# Altium schematic symbol library aiskylab-06IC-02Memory.SchLib: 21 symbols (part 1 of 4)
Pins are listed as number, name and electrical type; pins without a type are passive.

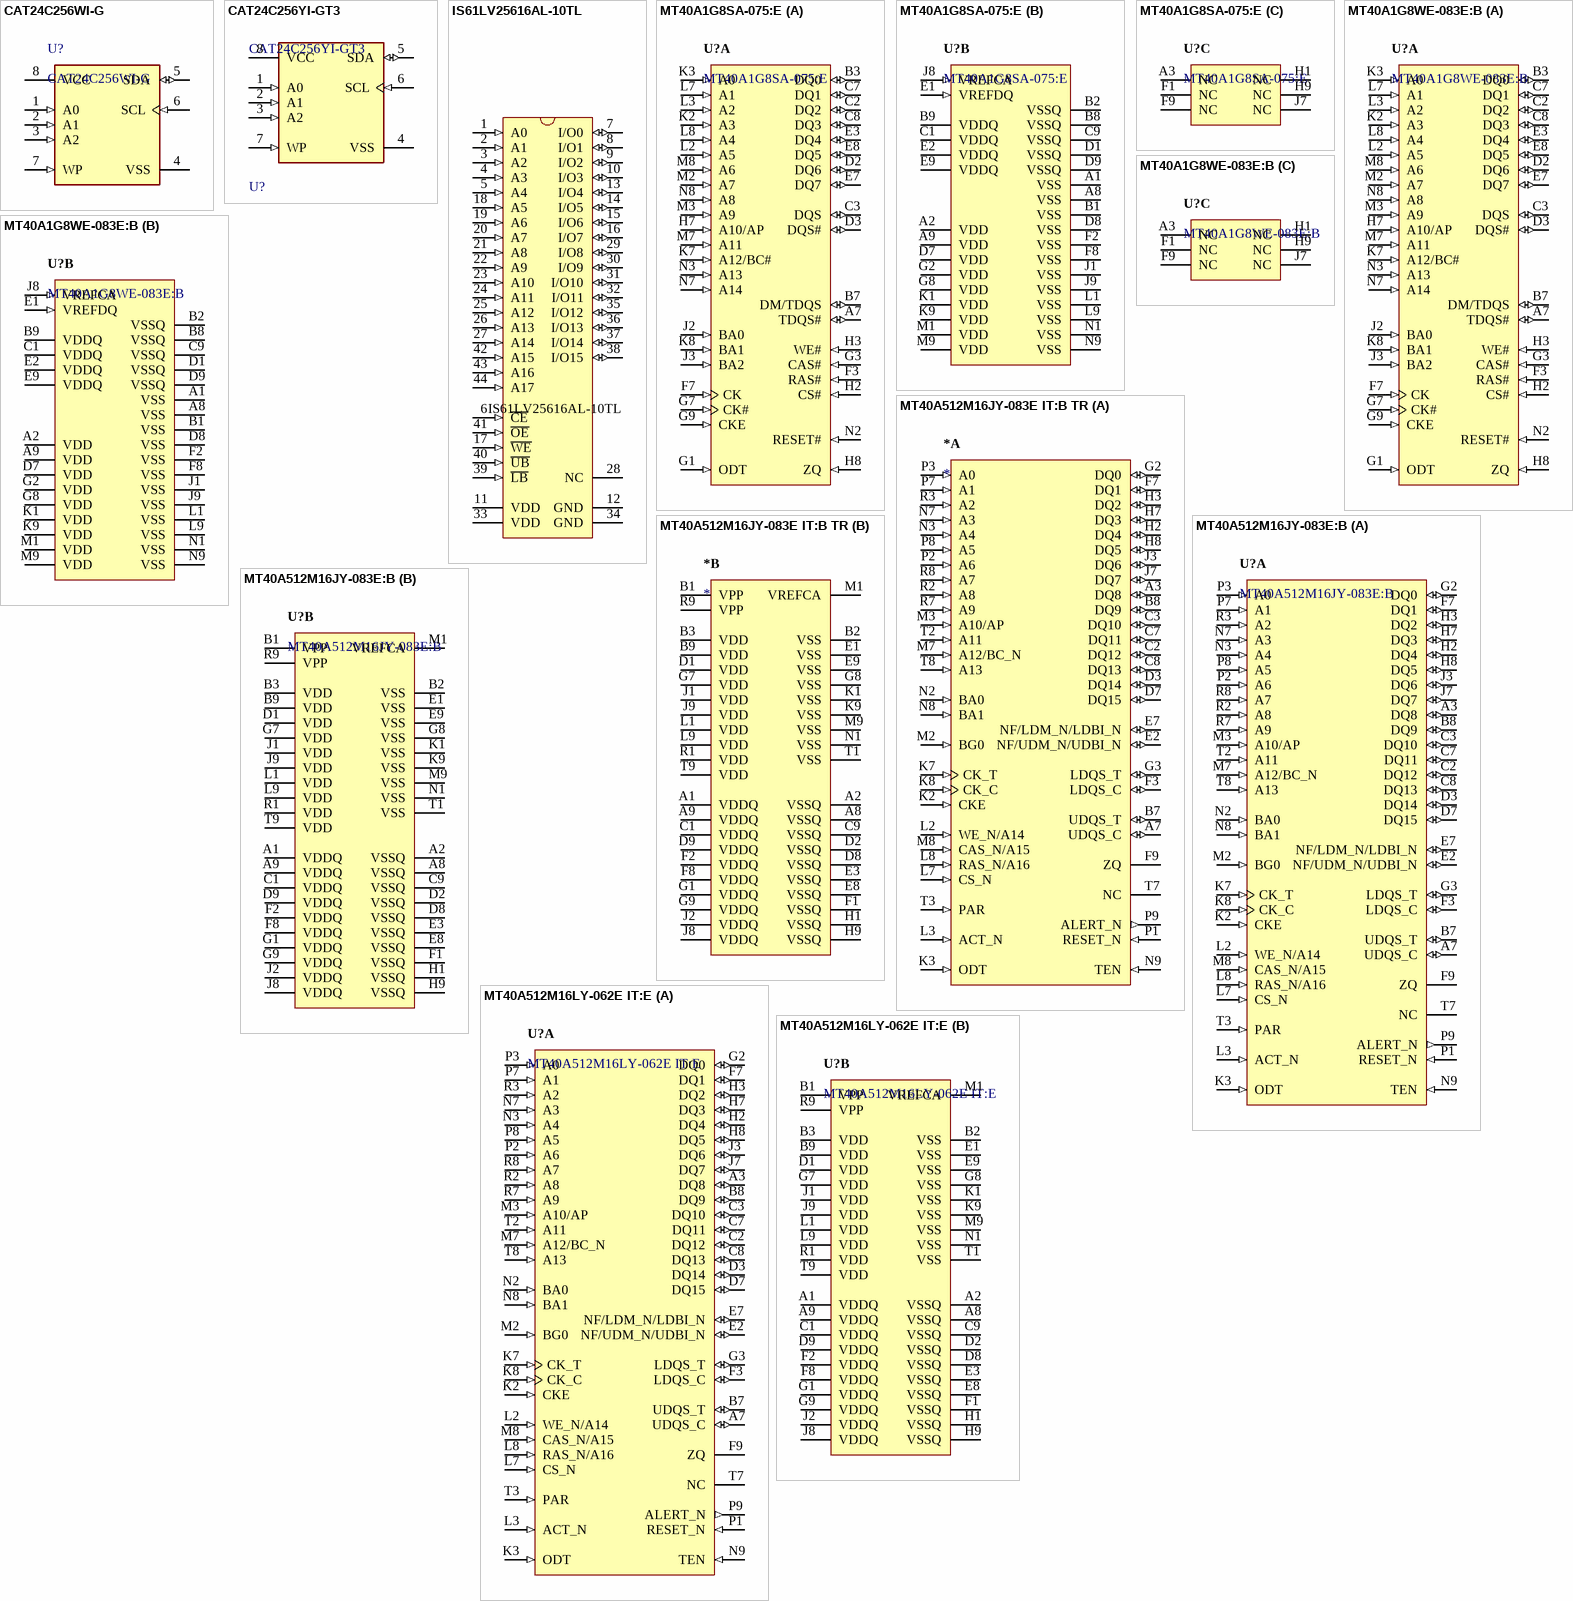
[diagram p0: symbols CAT24C256WI-G to MT40A512M16LY-062E IT:E]

## CAT24C256WI-G
designator U?
I2C CMOS Serial EEPROM, 1.8 to 5.5 V, -40 to 85 degC, 8-Pin SOIC, RoHS, Tube; Manufacturer: ON Semiconductor; Operating Supply Voltage (Max): 5.5V; Frequency (Max): 0.1MHz; Operating Supply Voltage (Typ): 2.5/3.3/5V; Supply Current: 1mA; Data Retention: 100; Organization: 32Kx8; Programmable: Yes; Operating Supply Voltage (Min): 1.8V; Access Time (Max): 3500ns; Density: 262144Bit; Interface Type: Serial(I2C); DELETED: Compliant; Rad Hardened: No; Package Reference: SOIC-8-751BD-01; Manufacturer URL: http://www.onsemi.com/; Package Type: SOICN; Operating Temperature Classification: Industrial; Datasheet Version: Rev. 14, 01/2014; Datasheet URL: http://www.onsemi.com/pub_link/Collateral/CAT24C256-D.PDF; Operating Temp Range: -40Cto85C; Mounting: SurfaceMount; Package Description: 8-Pin Small Outline Integrated Circuit, Body 4.9 x 3.9 mm, Pitch 1.27 mm; Pin Count: 8; Operating Temperature (Max): 85C; Operating Temperature (Min): -40C; Frequency: 0.1MHz; Write Protection: Yes; Mounting Technology: SurfaceMount; Package URL: http://www.onsemi.com/pub_link/Collateral/751BD.PDF
footprint ONSC-SOIC-8-751BD-01_N (SOIC, 8-Leads, Body 4.90x3.90mm, Pitch 1.27mm, IPC Medium Density)
footprint ONSC-SOIC-8-751BD-01_M (SOIC, 8-Leads, Body 4.90x3.90mm, Pitch 1.27mm, IPC Low Density)
footprint ONSC-SOIC-8-751BD-01_L (SOIC, 8-Leads, Body 4.90x3.90mm, Pitch 1.27mm, IPC High Density)
pins: 1 A0 (in), 2 A1 (in), 3 A2 (in), 4 VSS (power), 5 SDA (io), 6 SCL (in), 7 WP (in), 8 VCC (power)

## CAT24C256YI-GT3
designator U?
IC EEPROM 256K I2C 1MHZ 8TSSOP; Manufacturer: ON Semiconductor; Nominal Supply Current: 1-3mA; Min Supply Voltage: 1.8V; Max Supply Voltage: 5.5V; Frequency: 1000kHz; Standoff Height: 0.05mm; Memory Size: 256Kbits; Access Time: 3.5us; Device Class L3: EEPROM; Memory Type: EEPROM; Height: 1.2mm; ComponentLink2Description: Datasheet; Temperature Range High: +85°C; Package: 948AL-01; Temperature: -40°C to +85°C; Temperature Range Low: -40°C; Ipc Land Pattern Name: SOP65P640X120-8; Device Class L2: Memory; Digikey Description: IC EEPROM 256K I2C 1MHZ 8TSSOP; Category: IC; Octopart: https://octopart.com/cat24c256yi-gt3-on+semiconductor-46635622; RoHS: TRUE; Mouser Description: EEPROM 256K-Bit I2C Serial CMOS EEPROM; Interface: I2C; Manufacturer Part Number: CAT24C256YI-GT3; Automotive: No; Device Class L1: Integrated Circuits (ICs); ComponentLink2URL: https://www.onsemi.jp/PowerSolutions/document/CAT24C256-D.PDF; Lead Free: Yes
footprint FP-948AL-01-IPC_C
footprint FP-948AL-01-IPC_B
footprint FP-948AL-01-IPC_A
pins: 1 A0 (in), 2 A1 (in), 3 A2 (in), 4 VSS (power), 5 SDA (io), 6 SCL (in), 7 WP (in), 8 VCC (power)

## IS61LV25616AL-10TL
designator ?
256 K x 16 High Speed Asynchronous CMOS Static RAM, 3.3 V, 0 to 70 degC, 44-pin SOP; Manufacturer: ISSI; Input LOW Voltage: -0.3 to 0.8 V; Input HIGH Voltage(Min): 2 V; Input Capacitance(Max): 6 pF; Output Capacitance(Max): 8 pF; Output HIGH Voltage(Min): 2.4 V; Output LOW Voltage(Max): 0.4 V; V DD Dynamic Operating Supply Current(Max): 100 mA; PackageReference: TSOP-44; ComponentLink3Description: Package Specification; Mounting Technology: Surface Mount; DatasheetVersion: Rev. F; Operating Temperature: 0 to 70 degC; PackageDescription: 44-Pin Small Outline Package, Body 18.54 x 10.29 mm, Pitch 0.8 mm; ComponentLink3URL: http://www.issi.com/WW/pdf/61LV25616AL.pdf; ComponentLink2Description: Datasheet; ComponentLink2URL: http://www.issi.com/WW/pdf/61LV25616AL.pdf; ComponentLink1URL: http://www.issi.com/; PartNumber: IS61LV25616AL-10TL; ComponentLink1Description: Manufacturer URL
footprint ISSI-TSOP-44_V (SOP, 44-Leads, Body 18.54x10.29mm, Pitch 0.8mm)
pins: 1 A0 (in) "Address Inputs", 2 A1 (in) "Chip Enable Input", 3 A2 (in) "Data Inputs/Outputs", 4 A3 (in) "Data Inputs/Outputs", 5 A4 (in) "Data Inputs/Outputs", 6 ~{CE} (in) "Data Inputs/Outputs", 7 I/O0 (io) "Power", 8 I/O1 (io) "Ground", 9 I/O2 (io) "Data Inputs/Outputs", 10 I/O3 (io) "Data Inputs/Outputs", 11 VDD (power) "Data Inputs/Outputs", 12 GND (power) "Data Inputs/Outputs", 13 I/O4 (io) "Write Enable Input", 14 I/O5 (io) "Address Inputs", 15 I/O6 (io) "Address Inputs", 16 I/O7 (io) "Address Inputs", 17 ~{WE} (in) "Address Inputs", 18 A5 (in) "Address Inputs", 19 A6 (in) "Address Inputs", 20 A7 (in) "Address Inputs", 21 A8 (in) "Address Inputs", 22 A9 (in) "Address Inputs", 23 A10 (in) "Address Inputs", 24 A11 (in) "No Connection", 25 A12 (in) "Data Inputs/Outputs", 26 A13 (in) "Data Inputs/Outputs", 27 A14 (in) "Data Inputs/Outputs", 28 NC "Data Inputs/Outputs", 29 I/O8 (io) "Power", 30 I/O9 (io) "Ground", 31 I/O10 (io) "Data Inputs/Outputs", 32 I/O11 (io) "Data Inputs/Outputs", 33 VDD (power) "Data Inputs/Outputs", 34 GND (power) "Data Inputs/Outputs", 35 I/O12 (io) "Lower-byte Control (I/O0-I/O7)", 36 I/O13 (io) "Upper-byte Control (I/O8-I/O15)", 37 I/O14 (io) "Output Enable Input", 38 I/O15 (io) "Address Inputs", 39 ~{LB} (in) "Address Inputs", 40 ~{UB} (in) "Address Inputs", 41 ~{OE} (in), 42 A15 (in), 43 A16 (in), 44 A17 (in)
1 alternate drawing of the same symbol

## MT40A1G8SA-075:E
designator U?
DDR4 SDRAM; Manufacturer: Micron Technology; Memory Type: Volatile; Memory Size: 8Gb; Frequency: 1.33GHz; Supplier 1: Newark; Manufacturer Part Number: MT40A1G8SA-075:E; RoHS: Yes; Category: Memory; Stock 1: 503; Pricing 1: 1=7.78000 (USD); Min Operating Temperature: 0°C; Max Operating Temperature: 95°C; RoHS Compliant: Yes; ComponentLink1URL: https://atta.szlcsc.com/upload/public/pdf/source/20200402/C508272_657008FF02B09875F6830BA316FF1FEE.pdf; ComponentLink1Description: Datasheet; Supplier Part Number 1: 80AH7959; Supplier: JLC; SupplierPartNumber: C426887; Price: 61.39
part A pins: A7 TDQS# (io) "Termination data strobe: Applies to the x8 configuration only. When TDQS is enabled, DM is disabled, and the TDQS and TDQS# balls provide termination resistance.", B3 DQ0 (io) "Data input/output: Bidirectional data bus for the x8 configuration. DQ[7:0] are referenced to VREFDQ.", B7 DM/TDQS (io) "Input data mask: DM is an input mask signal for write data. Input data is masked when DM is sampled HIGH along with the input data during a write access. Although the DM ball is input-only, the DM loading is designed to (See Datasheet)", C2 DQ2 (io) "Data input/output: Bidirectional data bus for the x8 configuration. DQ[7:0] are referenced to VREFDQ.", C3 DQS (io) "Data strobe: Output with read data. Edge-aligned with read data. Input with write data. Center-aligned to write data.", C7 DQ1 (io) "Data input/output: Bidirectional data bus for the x8 configuration. DQ[7:0] are referenced to VREFDQ.", C8 DQ3 (io) "Data input/output: Bidirectional data bus for the x8 configuration. DQ[7:0] are referenced to VREFDQ.", D2 DQ6 (io) "Data input/output: Bidirectional data bus for the x8 configuration. DQ[7:0] are referenced to VREFDQ.", D3 DQS# (io) "Data strobe: Output with read data. Edge-aligned with read data. Input with write data. Center-aligned to write data.", E3 DQ4 (io) "Data input/output: Bidirectional data bus for the x8 configuration. DQ[7:0] are referenced to VREFDQ.", E7 DQ7 (io) "Data input/output: Bidirectional data bus for the x8 configuration. DQ[7:0] are referenced to VREFDQ.", E8 DQ5 (io) "Data input/output: Bidirectional data bus for the x8 configuration. DQ[7:0] are referenced to VREFDQ.", F3 RAS# (in) "Command inputs: RAS#, CAS#, and WE# (along with CS#) define the command being entered and are referenced to VREFCA.", F7 CK (in) "Clock: CK and CK# are differential clock inputs. All address and control input signals are sampled on the crossing of the positive edge of CK and the negative edge of CK#. Output data strobe (DQS, DQS#) is referenced to the (See Datasheet)", G1 ODT (in) "On-die termination: ODT enables (registered HIGH) and disables (registered LOW) termination resistance internal to the DDR3 SDRAM. When enabled in normal operation, ODT is only applied to each of the following balls: (See Datasheet)", G3 CAS# (in) "Command inputs: RAS#, CAS#, and WE# (along with CS#) define the command being entered and are referenced to VREFCA.", G7 CK# (in) "Clock: CK and CK# are differential clock inputs. All address and control input signals are sampled on the crossing of the positive edge of CK and the negative edge of CK#. Output data strobe (DQS, DQS#) is referenced to the (See Datasheet)", G9 CKE (in) "Clock enable: CKE enables (registered HIGH) and disables (registered LOW) internal circuitry and clocks on the DRAM. The specific circuitry that is enabled/disabled is dependent upon the DDR3 SDRAM configuration and (See Datasheet)", H2 CS# (in) "Chip select: CS# enables (registered LOW) and disables (registered HIGH) the command decoder. All commands are masked when CS# is registered HIGH. CS# provides for external rank selection on systems with multiple ranks. CS# (See Datasheet)", H3 WE# (in) "Command inputs: RAS#, CAS#, and WE# (along with CS#) define the command being entered and are referenced to VREFCA.", H7 A10/AP (in) "Address inputs: Provide the row address for ACTIVATE commands, and the column address and auto precharge bit (A10) for READ/WRITE commands, to select one location out of the memory array in the respective bank. A10 sampled (See Datasheet)", H8 ZQ (in) "External reference ball for output drive calibration: This ball is tied to an external 240ohm resistor (RZQ), which is tied to VSSQ.", J2 BA0 (in) "Bank address inputs: BA[2:0] define the bank to which an ACTIVATE, READ, WRITE, or PRECHARGE command is being applied. BA[2:0] define which mode register (MR0, MR1, MR2, or MR3) is loaded during the LOAD MODE command. (See Datasheet)", J3 BA2 (in) "Bank address inputs: BA[2:0] define the bank to which an ACTIVATE, READ, WRITE, or PRECHARGE command is being applied. BA[2:0] define which mode register (MR0, MR1, MR2, or MR3) is loaded during the LOAD MODE command. (See Datasheet)", K2 A3 (in) "Address inputs: Provide the row address for ACTIVATE commands, and the column address and auto precharge bit (A10) for READ/WRITE commands, to select one location out of the memory array in the respective bank. A10 sampled (See Datasheet)", K3 A0 (in) "Address inputs: Provide the row address for ACTIVATE commands, and the column address and auto precharge bit (A10) for READ/WRITE commands, to select one location out of the memory array in the respective bank. A10 sampled (See Datasheet)", K7 A12/BC# (in) "Address inputs: Provide the row address for ACTIVATE commands, and the column address and auto precharge bit (A10) for READ/WRITE commands, to select one location out of the memory array in the respective bank. A10 sampled (See Datasheet)", K8 BA1 (in) "Bank address inputs: BA[2:0] define the bank to which an ACTIVATE, READ, WRITE, or PRECHARGE command is being applied. BA[2:0] define which mode register (MR0, MR1, MR2, or MR3) is loaded during the LOAD MODE command. (See Datasheet)", L2 A5 (in) "Address inputs: Provide the row address for ACTIVATE commands, and the column address and auto precharge bit (A10) for READ/WRITE commands, to select one location out of the memory array in the respective bank. A10 sampled (See Datasheet)", L3 A2 (in) "Address inputs: Provide the row address for ACTIVATE commands, and the column address and auto precharge bit (A10) for READ/WRITE commands, to select one location out of the memory array in the respective bank. A10 sampled (See Datasheet)", L7 A1 (in) "Address inputs: Provide the row address for ACTIVATE commands, and the column address and auto precharge bit (A10) for READ/WRITE commands, to select one location out of the memory array in the respective bank. A10 sampled (See Datasheet)", L8 A4 (in) "Address inputs: Provide the row address for ACTIVATE commands, and the column address and auto precharge bit (A10) for READ/WRITE commands, to select one location out of the memory array in the respective bank. A10 sampled (See Datasheet)", M2 A7 (in) "Address inputs: Provide the row address for ACTIVATE commands, and the column address and auto precharge bit (A10) for READ/WRITE commands, to select one location out of the memory array in the respective bank. A10 sampled (See Datasheet)", M3 A9 (in) "Address inputs: Provide the row address for ACTIVATE commands, and the column address and auto precharge bit (A10) for READ/WRITE commands, to select one location out of the memory array in the respective bank. A10 sampled (See Datasheet)", M7 A11 (in) "Address inputs: Provide the row address for ACTIVATE commands, and the column address and auto precharge bit (A10) for READ/WRITE commands, to select one location out of the memory array in the respective bank. A10 sampled (See Datasheet)", M8 A6 (in) "Address inputs: Provide the row address for ACTIVATE commands, and the column address and auto precharge bit (A10) for READ/WRITE commands, to select one location out of the memory array in the respective bank. A10 sampled (See Datasheet)", N2 RESET# (in) "Reset: RESET# is an active LOW CMOS input referenced to VSS. The RESET# input receiver is a CMOS input defined as a rail-to-rail signal with DC HIGH >= 0.8 x VDDQ and DC LOW =< 0.2 x VDDQ. RESET# assertion and deassertion (See Datasheet)", N3 A13 (in) "Address inputs: Provide the row address for ACTIVATE commands, and the column address and auto precharge bit (A10) for READ/WRITE commands, to select one location out of the memory array in the respective bank. A10 sampled (See Datasheet)", N7 A14 (in) "Address inputs: Provide the row address for ACTIVATE commands, and the column address and auto precharge bit (A10) for READ/WRITE commands, to select one location out of the memory array in the respective bank. A10 sampled (See Datasheet)", N8 A8 (in) "Address inputs: Provide the row address for ACTIVATE commands, and the column address and auto precharge bit (A10) for READ/WRITE commands, to select one location out of the memory array in the respective bank. A10 sampled (See Datasheet)"
part B pins: A1 VSS (power) "Ground.", A2 VDD (power) "Power supply: 1.35V, 1.283-1.45V operational; compatible to 1.5V operation.", A8 VSS (power) "Ground.", A9 VDD (power) "Power supply: 1.35V, 1.283-1.45V operational; compatible to 1.5V operation.", B1 VSS (power) "Ground.", B2 VSSQ (power) "DQ ground: Isolated on the device for improved noise immunity.", B8 VSSQ (power) "DQ ground: Isolated on the device for improved noise immunity.", B9 VDDQ (power) "DQ power supply: 1.35V, 1.283-1.45V operational; compatible with 1.5V operation.", C1 VDDQ (power) "DQ power supply: 1.35V, 1.283-1.45V operational; compatible with 1.5V operation.", C9 VSSQ (power) "DQ ground: Isolated on the device for improved noise immunity.", D1 VSSQ (power) "DQ ground: Isolated on the device for improved noise immunity.", D7 VDD (power) "Power supply: 1.35V, 1.283-1.45V operational; compatible to 1.5V operation.", D8 VSS (power) "Ground.", D9 VSSQ (power) "DQ ground: Isolated on the device for improved noise immunity.", E1 VREFDQ (in) "Reference voltage for data: VREFDQ must be maintained at all times (including self refresh) for proper device operation.", E2 VDDQ (power) "DQ power supply: 1.35V, 1.283-1.45V operational; compatible with 1.5V operation.", E9 VDDQ (power) "DQ power supply: 1.35V, 1.283-1.45V operational; compatible with 1.5V operation.", F2 VSS (power) "Ground.", F8 VSS (power) "Ground.", G2 VDD (power) "Power supply: 1.35V, 1.283-1.45V operational; compatible to 1.5V operation.", G8 VDD (power) "Power supply: 1.35V, 1.283-1.45V operational; compatible to 1.5V operation.", J1 VSS (power) "Ground.", J8 VREFCA (in) "Reference voltage for control, command, and address: VREFCA must be maintained at all times (including self refresh) for proper device operation.", J9 VSS (power) "Ground.", K1 VDD (power) "Power supply: 1.35V, 1.283-1.45V operational; compatible to 1.5V operation.", K9 VDD (power) "Power supply: 1.35V, 1.283-1.45V operational; compatible to 1.5V operation.", L1 VSS (power) "Ground.", L9 VSS (power) "Ground.", M1 VDD (power) "Power supply: 1.35V, 1.283-1.45V operational; compatible to 1.5V operation.", M9 VDD (power) "Power supply: 1.35V, 1.283-1.45V operational; compatible to 1.5V operation.", N1 VSS (power) "Ground.", N9 VSS (power) "Ground."
part C pins: A3 NC "No connect: These balls should be left unconnected (the ball has no connection to the DRAM or to other balls).", F1 NC "No connect: These balls should be left unconnected (the ball has no connection to the DRAM or to other balls).", F9 NC "No connect: These balls should be left unconnected (the ball has no connection to the DRAM or to other balls).", H1 NC "No connect: These balls should be left unconnected (the ball has no connection to the DRAM or to other balls).", H9 NC "No connect: These balls should be left unconnected (the ball has no connection to the DRAM or to other balls).", J7 NC "No connect: These balls should be left unconnected (the ball has no connection to the DRAM or to other balls)."

## MT40A1G8WE-083E:B
designator U?
DDR4 SDRAM; Manufacturer: Micron Technology; Supplier 1: Arrow Electronics; Manufacturer Part Number: MT40A1G8WE-083E:B; RoHS: Yes; Category: RAM; RoHS Compliant: Yes; Supplier Part Number 1: MT40A1G8WE-083E:B
part A pins: A7 TDQS# (io) "Termination data strobe: Applies to the x8 configuration only. When TDQS is enabled, DM is disabled, and the TDQS and TDQS# balls provide termination resistance.", B3 DQ0 (io) "Data input/output: Bidirectional data bus for the x8 configuration. DQ[7:0] are referenced to VREFDQ.", B7 DM/TDQS (io) "Input data mask: DM is an input mask signal for write data. Input data is masked when DM is sampled HIGH along with the input data during a write access. Although the DM ball is input-only, the DM loading is designed to (See Datasheet)", C2 DQ2 (io) "Data input/output: Bidirectional data bus for the x8 configuration. DQ[7:0] are referenced to VREFDQ.", C3 DQS (io) "Data strobe: Output with read data. Edge-aligned with read data. Input with write data. Center-aligned to write data.", C7 DQ1 (io) "Data input/output: Bidirectional data bus for the x8 configuration. DQ[7:0] are referenced to VREFDQ.", C8 DQ3 (io) "Data input/output: Bidirectional data bus for the x8 configuration. DQ[7:0] are referenced to VREFDQ.", D2 DQ6 (io) "Data input/output: Bidirectional data bus for the x8 configuration. DQ[7:0] are referenced to VREFDQ.", D3 DQS# (io) "Data strobe: Output with read data. Edge-aligned with read data. Input with write data. Center-aligned to write data.", E3 DQ4 (io) "Data input/output: Bidirectional data bus for the x8 configuration. DQ[7:0] are referenced to VREFDQ.", E7 DQ7 (io) "Data input/output: Bidirectional data bus for the x8 configuration. DQ[7:0] are referenced to VREFDQ.", E8 DQ5 (io) "Data input/output: Bidirectional data bus for the x8 configuration. DQ[7:0] are referenced to VREFDQ.", F3 RAS# (in) "Command inputs: RAS#, CAS#, and WE# (along with CS#) define the command being entered and are referenced to VREFCA.", F7 CK (in) "Clock: CK and CK# are differential clock inputs. All address and control input signals are sampled on the crossing of the positive edge of CK and the negative edge of CK#. Output data strobe (DQS, DQS#) is referenced to the (See Datasheet)", G1 ODT (in) "On-die termination: ODT enables (registered HIGH) and disables (registered LOW) termination resistance internal to the DDR3 SDRAM. When enabled in normal operation, ODT is only applied to each of the following balls: (See Datasheet)", G3 CAS# (in) "Command inputs: RAS#, CAS#, and WE# (along with CS#) define the command being entered and are referenced to VREFCA.", G7 CK# (in) "Clock: CK and CK# are differential clock inputs. All address and control input signals are sampled on the crossing of the positive edge of CK and the negative edge of CK#. Output data strobe (DQS, DQS#) is referenced to the (See Datasheet)", G9 CKE (in) "Clock enable: CKE enables (registered HIGH) and disables (registered LOW) internal circuitry and clocks on the DRAM. The specific circuitry that is enabled/disabled is dependent upon the DDR3 SDRAM configuration and (See Datasheet)", H2 CS# (in) "Chip select: CS# enables (registered LOW) and disables (registered HIGH) the command decoder. All commands are masked when CS# is registered HIGH. CS# provides for external rank selection on systems with multiple ranks. CS# (See Datasheet)", H3 WE# (in) "Command inputs: RAS#, CAS#, and WE# (along with CS#) define the command being entered and are referenced to VREFCA.", H7 A10/AP (in) "Address inputs: Provide the row address for ACTIVATE commands, and the column address and auto precharge bit (A10) for READ/WRITE commands, to select one location out of the memory array in the respective bank. A10 sampled (See Datasheet)", H8 ZQ (in) "External reference ball for output drive calibration: This ball is tied to an external 240ohm resistor (RZQ), which is tied to VSSQ.", J2 BA0 (in) "Bank address inputs: BA[2:0] define the bank to which an ACTIVATE, READ, WRITE, or PRECHARGE command is being applied. BA[2:0] define which mode register (MR0, MR1, MR2, or MR3) is loaded during the LOAD MODE command. (See Datasheet)", J3 BA2 (in) "Bank address inputs: BA[2:0] define the bank to which an ACTIVATE, READ, WRITE, or PRECHARGE command is being applied. BA[2:0] define which mode register (MR0, MR1, MR2, or MR3) is loaded during the LOAD MODE command. (See Datasheet)", K2 A3 (in) "Address inputs: Provide the row address for ACTIVATE commands, and the column address and auto precharge bit (A10) for READ/WRITE commands, to select one location out of the memory array in the respective bank. A10 sampled (See Datasheet)", K3 A0 (in) "Address inputs: Provide the row address for ACTIVATE commands, and the column address and auto precharge bit (A10) for READ/WRITE commands, to select one location out of the memory array in the respective bank. A10 sampled (See Datasheet)", K7 A12/BC# (in) "Address inputs: Provide the row address for ACTIVATE commands, and the column address and auto precharge bit (A10) for READ/WRITE commands, to select one location out of the memory array in the respective bank. A10 sampled (See Datasheet)", K8 BA1 (in) "Bank address inputs: BA[2:0] define the bank to which an ACTIVATE, READ, WRITE, or PRECHARGE command is being applied. BA[2:0] define which mode register (MR0, MR1, MR2, or MR3) is loaded during the LOAD MODE command. (See Datasheet)", L2 A5 (in) "Address inputs: Provide the row address for ACTIVATE commands, and the column address and auto precharge bit (A10) for READ/WRITE commands, to select one location out of the memory array in the respective bank. A10 sampled (See Datasheet)", L3 A2 (in) "Address inputs: Provide the row address for ACTIVATE commands, and the column address and auto precharge bit (A10) for READ/WRITE commands, to select one location out of the memory array in the respective bank. A10 sampled (See Datasheet)", L7 A1 (in) "Address inputs: Provide the row address for ACTIVATE commands, and the column address and auto precharge bit (A10) for READ/WRITE commands, to select one location out of the memory array in the respective bank. A10 sampled (See Datasheet)", L8 A4 (in) "Address inputs: Provide the row address for ACTIVATE commands, and the column address and auto precharge bit (A10) for READ/WRITE commands, to select one location out of the memory array in the respective bank. A10 sampled (See Datasheet)", M2 A7 (in) "Address inputs: Provide the row address for ACTIVATE commands, and the column address and auto precharge bit (A10) for READ/WRITE commands, to select one location out of the memory array in the respective bank. A10 sampled (See Datasheet)", M3 A9 (in) "Address inputs: Provide the row address for ACTIVATE commands, and the column address and auto precharge bit (A10) for READ/WRITE commands, to select one location out of the memory array in the respective bank. A10 sampled (See Datasheet)", M7 A11 (in) "Address inputs: Provide the row address for ACTIVATE commands, and the column address and auto precharge bit (A10) for READ/WRITE commands, to select one location out of the memory array in the respective bank. A10 sampled (See Datasheet)", M8 A6 (in) "Address inputs: Provide the row address for ACTIVATE commands, and the column address and auto precharge bit (A10) for READ/WRITE commands, to select one location out of the memory array in the respective bank. A10 sampled (See Datasheet)", N2 RESET# (in) "Reset: RESET# is an active LOW CMOS input referenced to VSS. The RESET# input receiver is a CMOS input defined as a rail-to-rail signal with DC HIGH >= 0.8 x VDDQ and DC LOW =< 0.2 x VDDQ. RESET# assertion and deassertion (See Datasheet)", N3 A13 (in) "Address inputs: Provide the row address for ACTIVATE commands, and the column address and auto precharge bit (A10) for READ/WRITE commands, to select one location out of the memory array in the respective bank. A10 sampled (See Datasheet)", N7 A14 (in) "Address inputs: Provide the row address for ACTIVATE commands, and the column address and auto precharge bit (A10) for READ/WRITE commands, to select one location out of the memory array in the respective bank. A10 sampled (See Datasheet)", N8 A8 (in) "Address inputs: Provide the row address for ACTIVATE commands, and the column address and auto precharge bit (A10) for READ/WRITE commands, to select one location out of the memory array in the respective bank. A10 sampled (See Datasheet)"
part B pins: A1 VSS (power) "Ground.", A2 VDD (power) "Power supply: 1.35V, 1.283-1.45V operational; compatible to 1.5V operation.", A8 VSS (power) "Ground.", A9 VDD (power) "Power supply: 1.35V, 1.283-1.45V operational; compatible to 1.5V operation.", B1 VSS (power) "Ground.", B2 VSSQ (power) "DQ ground: Isolated on the device for improved noise immunity.", B8 VSSQ (power) "DQ ground: Isolated on the device for improved noise immunity.", B9 VDDQ (power) "DQ power supply: 1.35V, 1.283-1.45V operational; compatible with 1.5V operation.", C1 VDDQ (power) "DQ power supply: 1.35V, 1.283-1.45V operational; compatible with 1.5V operation.", C9 VSSQ (power) "DQ ground: Isolated on the device for improved noise immunity.", D1 VSSQ (power) "DQ ground: Isolated on the device for improved noise immunity.", D7 VDD (power) "Power supply: 1.35V, 1.283-1.45V operational; compatible to 1.5V operation.", D8 VSS (power) "Ground.", D9 VSSQ (power) "DQ ground: Isolated on the device for improved noise immunity.", E1 VREFDQ (in) "Reference voltage for data: VREFDQ must be maintained at all times (including self refresh) for proper device operation.", E2 VDDQ (power) "DQ power supply: 1.35V, 1.283-1.45V operational; compatible with 1.5V operation.", E9 VDDQ (power) "DQ power supply: 1.35V, 1.283-1.45V operational; compatible with 1.5V operation.", F2 VSS (power) "Ground.", F8 VSS (power) "Ground.", G2 VDD (power) "Power supply: 1.35V, 1.283-1.45V operational; compatible to 1.5V operation.", G8 VDD (power) "Power supply: 1.35V, 1.283-1.45V operational; compatible to 1.5V operation.", J1 VSS (power) "Ground.", J8 VREFCA (in) "Reference voltage for control, command, and address: VREFCA must be maintained at all times (including self refresh) for proper device operation.", J9 VSS (power) "Ground.", K1 VDD (power) "Power supply: 1.35V, 1.283-1.45V operational; compatible to 1.5V operation.", K9 VDD (power) "Power supply: 1.35V, 1.283-1.45V operational; compatible to 1.5V operation.", L1 VSS (power) "Ground.", L9 VSS (power) "Ground.", M1 VDD (power) "Power supply: 1.35V, 1.283-1.45V operational; compatible to 1.5V operation.", M9 VDD (power) "Power supply: 1.35V, 1.283-1.45V operational; compatible to 1.5V operation.", N1 VSS (power) "Ground.", N9 VSS (power) "Ground."
part C pins: A3 NC "No connect: These balls should be left unconnected (the ball has no connection to the DRAM or to other balls).", F1 NC "No connect: These balls should be left unconnected (the ball has no connection to the DRAM or to other balls).", F9 NC "No connect: These balls should be left unconnected (the ball has no connection to the DRAM or to other balls).", H1 NC "No connect: These balls should be left unconnected (the ball has no connection to the DRAM or to other balls).", H9 NC "No connect: These balls should be left unconnected (the ball has no connection to the DRAM or to other balls).", J7 NC "No connect: These balls should be left unconnected (the ball has no connection to the DRAM or to other balls)."

## MT40A512M16JY-083E IT:B TR
designator *
IC DRAM 8G PARALLEL 96FBGA; Manufacturer: Micron Technology; Manufacturer Part Number: MT40A512M16JY-083E IT:B TR; Memory Type: RAM,SDRAM; Frequency: 1.2GHz; Supplier 1: Avnet; RoHS: Yes; Category: Memory; Min Operating Temperature: -40°C; Max Operating Temperature: 95°C; Interface: Parallel; ComponentLink1URL: https://www.micron.com/~/media/documents/products/data-sheet/dram/ddr4/8gb_ddr4_sdram.pdf?src-supplier=Digi-Key; ComponentLink1Description: https://www.micron.com/~/media/documents/products/data-sheet/dram/ddr4/8gb_ddr4_sdram.pdf?src-supplier=Digi-Key; Supplier Part Number 1: MT40A512M16JY-083E IT:B TR; Supplier: JLC; SupplierPartNumber: C427720; Price: 122.45; ComponentLink2Description: Datasheet; ComponentLink2URL: https://atta.szlcsc.com/upload/public/pdf/source/20190912/C427720_985DBFCFC09C73FEFFEF58FE5CA593F9.pdf
part A pins: A3 DQ8 (io) "Data input/output: Bidirectional data bus. DQ represents DQ[3:0], DQ[7:0], and DQ[15:0] for the x4, x8, and x16 configurations, respectively. If write CRC is enabled via mode register, the write CRC code is added at the end (See Datasheet)", A7 UDQS_C (io) "Data strobe: Output with READ data, input with WRITE data. Edge-aligned with READ data, centered-aligned with WRITE data. For the x16, DQSL corresponds to the data on DQ[7:0]; DQSU corresponds to the data on DQ[15:8]. For (See Datasheet)", B7 UDQS_T (io) "Data strobe: Output with READ data, input with WRITE data. Edge-aligned with READ data, centered-aligned with WRITE data. For the x16, DQSL corresponds to the data on DQ[7:0]; DQSU corresponds to the data on DQ[15:8]. For (See Datasheet)", B8 DQ9 (io) "Data input/output: Bidirectional data bus. DQ represents DQ[3:0], DQ[7:0], and DQ[15:0] for the x4, x8, and x16 configurations, respectively. If write CRC is enabled via mode register, the write CRC code is added at the end (See Datasheet)", C2 DQ12 (io) "Data input/output: Bidirectional data bus. DQ represents DQ[3:0], DQ[7:0], and DQ[15:0] for the x4, x8, and x16 configurations, respectively. If write CRC is enabled via mode register, the write CRC code is added at the end (See Datasheet)", C3 DQ10 (io) "Data input/output: Bidirectional data bus. DQ represents DQ[3:0], DQ[7:0], and DQ[15:0] for the x4, x8, and x16 configurations, respectively. If write CRC is enabled via mode register, the write CRC code is added at the end (See Datasheet)", C7 DQ11 (io) "Data input/output: Bidirectional data bus. DQ represents DQ[3:0], DQ[7:0], and DQ[15:0] for the x4, x8, and x16 configurations, respectively. If write CRC is enabled via mode register, the write CRC code is added at the end (See Datasheet)", C8 DQ13 (io) "Data input/output: Bidirectional data bus. DQ represents DQ[3:0], DQ[7:0], and DQ[15:0] for the x4, x8, and x16 configurations, respectively. If write CRC is enabled via mode register, the write CRC code is added at the end (See Datasheet)", D3 DQ14 (io) "Data input/output: Bidirectional data bus. DQ represents DQ[3:0], DQ[7:0], and DQ[15:0] for the x4, x8, and x16 configurations, respectively. If write CRC is enabled via mode register, the write CRC code is added at the end (See Datasheet)", D7 DQ15 (io) "Data input/output: Bidirectional data bus. DQ represents DQ[3:0], DQ[7:0], and DQ[15:0] for the x4, x8, and x16 configurations, respectively. If write CRC is enabled via mode register, the write CRC code is added at the end (See Datasheet)", E2 NF/UDM_N/UDBI_N (io), E7 NF/LDM_N/LDBI_N (io), F3 LDQS_C (io) "Data strobe: Output with READ data, input with WRITE data. Edge-aligned with READ data, centered-aligned with WRITE data. For the x16, DQSL corresponds to the data on DQ[7:0]; DQSU corresponds to the data on DQ[15:8]. For (See Datasheet)", F7 DQ1 (io) "Data input/output: Bidirectional data bus. DQ represents DQ[3:0], DQ[7:0], and DQ[15:0] for the x4, x8, and x16 configurations, respectively. If write CRC is enabled via mode register, the write CRC code is added at the end (See Datasheet)", F9 ZQ "Reference ball for ZQ calibration: This ball is tied to an external 240ohm resistor(RZQ), which is tied to VSSQ.", G2 DQ0 (io) "Data input/output: Bidirectional data bus. DQ represents DQ[3:0], DQ[7:0], and DQ[15:0] for the x4, x8, and x16 configurations, respectively. If write CRC is enabled via mode register, the write CRC code is added at the end (See Datasheet)", G3 LDQS_T (io) "Data strobe: Output with READ data, input with WRITE data. Edge-aligned with READ data, centered-aligned with WRITE data. For the x16, DQSL corresponds to the data on DQ[7:0]; DQSU corresponds to the data on DQ[15:8]. For (See Datasheet)", H2 DQ4 (io) "Data input/output: Bidirectional data bus. DQ represents DQ[3:0], DQ[7:0], and DQ[15:0] for the x4, x8, and x16 configurations, respectively. If write CRC is enabled via mode register, the write CRC code is added at the end (See Datasheet)", H3 DQ2 (io) "Data input/output: Bidirectional data bus. DQ represents DQ[3:0], DQ[7:0], and DQ[15:0] for the x4, x8, and x16 configurations, respectively. If write CRC is enabled via mode register, the write CRC code is added at the end (See Datasheet)", H7 DQ3 (io) "Data input/output: Bidirectional data bus. DQ represents DQ[3:0], DQ[7:0], and DQ[15:0] for the x4, x8, and x16 configurations, respectively. If write CRC is enabled via mode register, the write CRC code is added at the end (See Datasheet)", H8 DQ5 (io) "Data input/output: Bidirectional data bus. DQ represents DQ[3:0], DQ[7:0], and DQ[15:0] for the x4, x8, and x16 configurations, respectively. If write CRC is enabled via mode register, the write CRC code is added at the end (See Datasheet)", J3 DQ6 (io) "Data input/output: Bidirectional data bus. DQ represents DQ[3:0], DQ[7:0], and DQ[15:0] for the x4, x8, and x16 configurations, respectively. If write CRC is enabled via mode register, the write CRC code is added at the end (See Datasheet)", J7 DQ7 (io) "Data input/output: Bidirectional data bus. DQ represents DQ[3:0], DQ[7:0], and DQ[15:0] for the x4, x8, and x16 configurations, respectively. If write CRC is enabled via mode register, the write CRC code is added at the end (See Datasheet)", K2 CKE (in) "Clock enable: CKE HIGH activates and CKE LOW deactivates the internal clock signals, device input buffers, and output drivers. Taking CKE LOW provides PRECHARGE POWER-DOWN and SELF REFRESH operations (all banks idle), or (See Datasheet)", K3 ODT (in) "On-die termination: ODT (registered HIGH) enables termination resistance internal to the DDR4 SDRAM. When enabled, ODT (RTT) is applied only to each DQ, DQS_t, DQS_c, DM_n/DBI_n/TDQS_t, and TDQS_c signal for the x4 and x8 (See Datasheet)", K7 CK_T (in) "Clock: Differential clock input. All address, command, and control input signals are sampled on the crossing of the positive edge of CK_t and the negative edge of CK_c.", K8 CK_C (in) "Clock: Differential clock input. All address, command, and control input signals are sampled on the crossing of the positive edge of CK_t and the negative edge of CK_c.", L2 WE_N/A14 (in), L3 ACT_N (in) "Command input: ACT_n indicates an ACTIVATE command. When ACT_n (along with CS_n) is LOW, the input pins RAS_n/A16, CAS_n/A15, and WE_n/A14 are treated as row address inputs for the ACTIVATE command. When ACT_n is HIGH (along (See Datasheet)", L7 CS_N (in) "Chip select: All commands are masked when CS_n is registered HIGH. CS_n provides for external rank selection on systems with multiple ranks. CS_n is considered part of the command code.", L8 RAS_N/A16 (in), M2 BG0 (in) "Bank group address input: Define the bank group to which a REFRESH, ACTIVATE, READ, WRITE, or PRECHARGE command is being applied. Also determines which mode register is to be accessed during a MODE REGISTER SET command. (See Datasheet)", M3 A10/AP (in), M7 A12/BC_N (in), M8 CAS_N/A15 (in), N2 BA0 (in) "Bank address input: Define the bank (within a bank group) to which an ACTIVATE, READ, WRITE, or PRECHARGE command is being applied. Also determines which mode register is to be accessed during a MODE REGISTER SET command.", N3 A4 (in) "Address input: Provide the row address for ACTIVATE commands and the column address for READ/WRITE commands to select one location out of the memory array in the respective bank. (A10/AP, A12/BC_n, WE_n/A14, CAS_n/A15, (See Datasheet)", N7 A3 (in) "Address input: Provide the row address for ACTIVATE commands and the column address for READ/WRITE commands to select one location out of the memory array in the respective bank. (A10/AP, A12/BC_n, WE_n/A14, CAS_n/A15, (See Datasheet)", N8 BA1 (in) "Bank address input: Define the bank (within a bank group) to which an ACTIVATE, READ, WRITE, or PRECHARGE command is being applied. Also determines which mode register is to be accessed during a MODE REGISTER SET command.", N9 TEN (in) "Connectivity test mode: TEN is active when HIGH and inactive when LOW. TEN must be LOW during normal operation. TEN is a CMOS rail-to-rail signal with DC HIGH and LOW at 80% and 20% of VDD (960mV for DC HIGH and 240mV for DC (See Datasheet)", P1 RESET_N (in) "Active LOW asynchronous reset: Reset is active when RESET_n is LOW, and inactive when RESET_n is HIGH. RESET_n must be HIGH during normal operation. RESET_n is a CMOS rail-to-rail signal with DC HIGH and LOW at 80% and 20% (See Datasheet)", P2 A6 (in) "Address input: Provide the row address for ACTIVATE commands and the column address for READ/WRITE commands to select one location out of the memory array in the respective bank. (A10/AP, A12/BC_n, WE_n/A14, CAS_n/A15, (See Datasheet)", P3 A0 (in) "Address input: Provide the row address for ACTIVATE commands and the column address for READ/WRITE commands to select one location out of the memory array in the respective bank. (A10/AP, A12/BC_n, WE_n/A14, CAS_n/A15, (See Datasheet)", P7 A1 (in) "Address input: Provide the row address for ACTIVATE commands and the column address for READ/WRITE commands to select one location out of the memory array in the respective bank. (A10/AP, A12/BC_n, WE_n/A14, CAS_n/A15, (See Datasheet)", P8 A5 (in) "Address input: Provide the row address for ACTIVATE commands and the column address for READ/WRITE commands to select one location out of the memory array in the respective bank. (A10/AP, A12/BC_n, WE_n/A14, CAS_n/A15, (See Datasheet)", P9 ALERT_N (out) "Alert output: This signal allows the DRAM to indicate to the system's memory controller that a specific alert or event has occurred. Alerts will include the command/address parity error and the CRC data error when either of (See Datasheet)", R2 A8 (in) "Address input: Provide the row address for ACTIVATE commands and the column address for READ/WRITE commands to select one location out of the memory array in the respective bank. (A10/AP, A12/BC_n, WE_n/A14, CAS_n/A15, (See Datasheet)", R3 A2 (in) "Address input: Provide the row address for ACTIVATE commands and the column address for READ/WRITE commands to select one location out of the memory array in the respective bank. (A10/AP, A12/BC_n, WE_n/A14, CAS_n/A15, (See Datasheet)", R7 A9 (in) "Address input: Provide the row address for ACTIVATE commands and the column address for READ/WRITE commands to select one location out of the memory array in the respective bank. (A10/AP, A12/BC_n, WE_n/A14, CAS_n/A15, (See Datasheet)", R8 A7 (in) "Address input: Provide the row address for ACTIVATE commands and the column address for READ/WRITE commands to select one location out of the memory array in the respective bank. (A10/AP, A12/BC_n, WE_n/A14, CAS_n/A15, (See Datasheet)", T2 A11 (in) "Address input: Provide the row address for ACTIVATE commands and the column address for READ/WRITE commands to select one location out of the memory array in the respective bank. (A10/AP, A12/BC_n, WE_n/A14, CAS_n/A15, (See Datasheet)", T3 PAR (in) "Parity for command and address: This function can be enabled or disabled via the mode register. When enabled, the parity signal covers all command and address inputs, including ACT_n, RAS_n/A16, CAS_n/A15, WE_n/A14, A[17:0], (See Datasheet)", T7 NC "No connect: No internal electrical connection is present.", T8 A13 (in) "Address input: Provide the row address for ACTIVATE commands and the column address for READ/WRITE commands to select one location out of the memory array in the respective bank. (A10/AP, A12/BC_n, WE_n/A14, CAS_n/A15, (See Datasheet)"
part B pins: A1 VDDQ (power) "DQ power supply: 1.2V +/-0.060V.", A2 VSSQ (power) "DQ ground.", A8 VSSQ (power) "DQ ground.", A9 VDDQ (power) "DQ power supply: 1.2V +/-0.060V.", B1 VPP (power) "DRAM activating power supply: 2.5V -0.125V/+0.250V.", B2 VSS (power) "Ground.", B3 VDD (power) "Power supply: 1.2V +/-0.060V.", B9 VDD (power) "Power supply: 1.2V +/-0.060V.", C1 VDDQ (power) "DQ power supply: 1.2V +/-0.060V.", C9 VSSQ (power) "DQ ground.", D1 VDD (power) "Power supply: 1.2V +/-0.060V.", D2 VSSQ (power) "DQ ground.", D8 VSSQ (power) "DQ ground.", D9 VDDQ (power) "DQ power supply: 1.2V +/-0.060V.", E1 VSS (power) "Ground.", E3 VSSQ (power) "DQ ground.", E8 VSSQ (power) "DQ ground.", E9 VSS (power) "Ground.", F1 VSSQ (power) "DQ ground.", F2 VDDQ (power) "DQ power supply: 1.2V +/-0.060V.", F8 VDDQ (power) "DQ power supply: 1.2V +/-0.060V.", G1 VDDQ (power) "DQ power supply: 1.2V +/-0.060V.", G7 VDD (power) "Power supply: 1.2V +/-0.060V.", G8 VSS (power) "Ground.", G9 VDDQ (power) "DQ power supply: 1.2V +/-0.060V.", H1 VSSQ (power) "DQ ground.", H9 VSSQ (power) "DQ ground.", J1 VDD (power) "Power supply: 1.2V +/-0.060V.", J2 VDDQ (power) "DQ power supply: 1.2V +/-0.060V.", J8 VDDQ (power) "DQ power supply: 1.2V +/-0.060V.", J9 VDD (power) "Power supply: 1.2V +/-0.060V.", K1 VSS (power) "Ground.", K9 VSS (power) "Ground.", L1 VDD (power) "Power supply: 1.2V +/-0.060V.", L9 VDD (power) "Power supply: 1.2V +/-0.060V.", M1 VREFCA "Reference voltage for control, command, and address pins.", M9 VSS (power) "Ground.", N1 VSS (power) "Ground.", R1 VDD (power) "Power supply: 1.2V +/-0.060V.", R9 VPP (power) "DRAM activating power supply: 2.5V -0.125V/+0.250V.", T1 VSS (power) "Ground.", T9 VDD (power) "Power supply: 1.2V +/-0.060V."